# EAGLE library part YETDA-5060BRG4-RGB-LED (library IEEE-Learning)
Yetda RGB LED in compact 5060 package
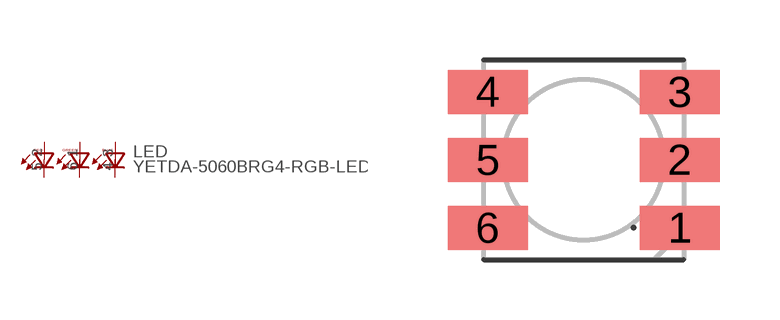
[diagram p0: symbol with the pads of YETDA-5060-RGB-LED; footprint YETDA-5060-RGB-LED]

Designator prefix LED

## YETDA-5060BRG4-RGB-LED5060  [YETDA-5060-RGB-LED]
1  GA  pas
2  RA  pas
3  BA  pas
4  BC  pas
5  RC  pas
6  GC  pas

## Footprint YETDA-5060-RGB-LED (pad centres in mm)
YETDA #5060BRG4 RGB LED Package
smd 2 x 1.1: 1 2.4,-1.7; 2 2.4,0; 3 2.4,1.7; 4 -2.4,1.7; 5 -2.4,0; 6 -2.4,-1.7